# Altium footprint library 摇杆.PcbLib: 1 footprints
Each footprint in its own frame and in the unit in brackets; x right, y up, seen from the top. Pads: shape width x height; smd on the part's side, far side on the other; paste and mask are expansions set on the pad; w line width, h text height; cw(c..) or ccw(c..) is an arc to the next point about the centre after c.
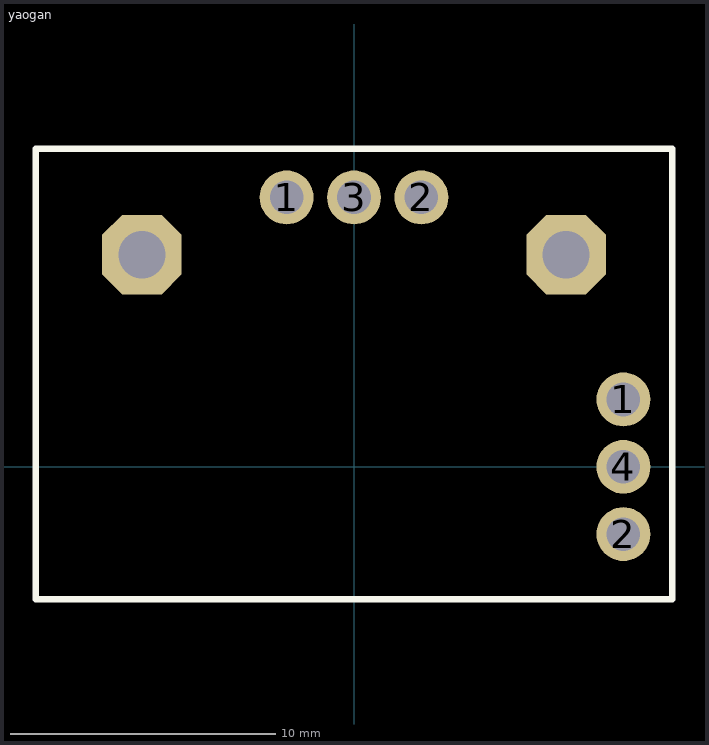
[diagram p0: the footprint, top view; thin cyan lines are the x and y axes]

## yaogan [mil]
pads (8):
  round 80 hole 50: 1(-100,400) 1(400,100) 2(100,400) 2(400,-100) 3(0,400) 4(400,0)
  oct 118.11x118.11 hole 70: ""(-314.96,314.96) ""(314.96,314.96)
Top Overlay:
  lines w10: -472.44,-196.85 472.44,-196.85 472.44,472.44 -472.44,472.44 -472.44,-196.85